# EAGLE library part 74*16245 (library 74xx-us)
IC 16-BIT TXCVR 48-TSSOP
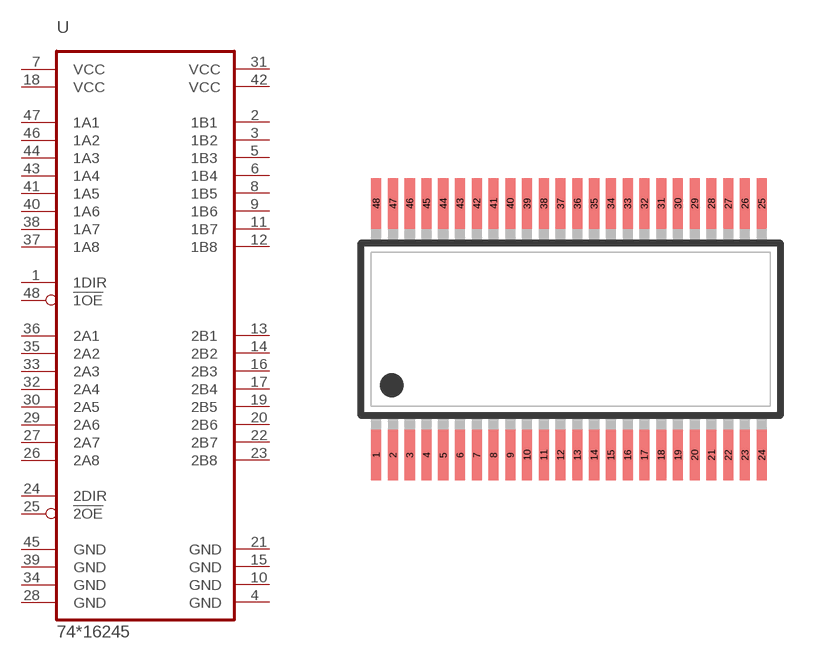
[diagram p326: symbol with the pads of TSSOP48; footprint TSSOP48]

Designator prefix U

## 7416245, 74LVC16245  [TSSOP48]
1  1DIR  in
2  1B1  hiz
3  1B2  hiz
4  GND  pwr
5  1B3  hiz
6  1B4  hiz
7  VCC  pwr
8  1B5  hiz
9  1B6  hiz
10  GND  pwr
11  1B7  hiz
12  1B8  hiz
13  2B1  hiz
14  2B2  hiz
15  GND  pwr
16  2B3  hiz
17  2B4  hiz
18  VCC  pwr
19  2B5  hiz
20  2B6  hiz
21  GND  pwr
22  2B7  hiz
23  2B8  hiz
24  2DIR
25  !2OE!
26  2A8  in
27  2A7  in
28  GND  pwr
29  2A6  in
30  2A5  in
31  VCC  pwr
32  2A4  in
33  2A3  in
34  GND  pwr
35  2A2  in
36  2A1  in
37  1A8  in
38  1A7  in
39  GND  pwr
40  1A6  in
41  1A5  in
42  VCC  pwr
43  1A4  in
44  1A3  in
45  GND  pwr
46  1A2  in
47  1A1  in
48  !1OE!  in

## Footprint TSSOP48 (pad centres in mm)
Thin Shrink Small Outline Plastic 48
smd 0.3 x 1.5: 1 -5.75,-3.75; 2 -5.25,-3.75; 3 -4.75,-3.75; 4 -4.25,-3.75; 5 -3.75,-3.75; 6 -3.25,-3.75; 7 -2.75,-3.75; 8 -2.25,-3.75; 9 -1.75,-3.75; 10 -1.25,-3.75; 11 -0.75,-3.75; 12 -0.25,-3.75; 13 0.25,-3.75; 14 0.75,-3.75; 15 1.25,-3.75; 16 1.75,-3.75; 17 2.25,-3.75; 18 2.75,-3.75; 19 3.25,-3.75; 20 3.75,-3.75; 21 4.25,-3.75; 22 4.75,-3.75; 23 5.25,-3.75; 24 5.75,-3.75; 25 5.75,3.75; 26 5.25,3.75; 27 4.75,3.75; 28 4.25,3.75; 29 3.75,3.75; 30 3.25,3.75; 31 2.75,3.75; 32 2.25,3.75; 33 1.75,3.75; 34 1.25,3.75; 35 0.75,3.75; 36 0.25,3.75; 37 -0.25,3.75; 38 -0.75,3.75; 39 -1.25,3.75; 40 -1.75,3.75; 41 -2.25,3.75; 42 -2.75,3.75; 43 -3.25,3.75; 44 -3.75,3.75; 45 -4.25,3.75; 46 -4.75,3.75; 47 -5.25,3.75; 48 -5.75,3.75